# Altium footprint library Tri.PcbLib: 66 footprints (part 3 of 5)
Each footprint in its own frame and in the unit in brackets; x right, y up, seen from the top. Pads: shape width x height; smd on the part's side, far side on the other; paste and mask are expansions set on the pad; w line width, h text height; cw(c..) or ccw(c..) is an arc to the next point about the centre after c.
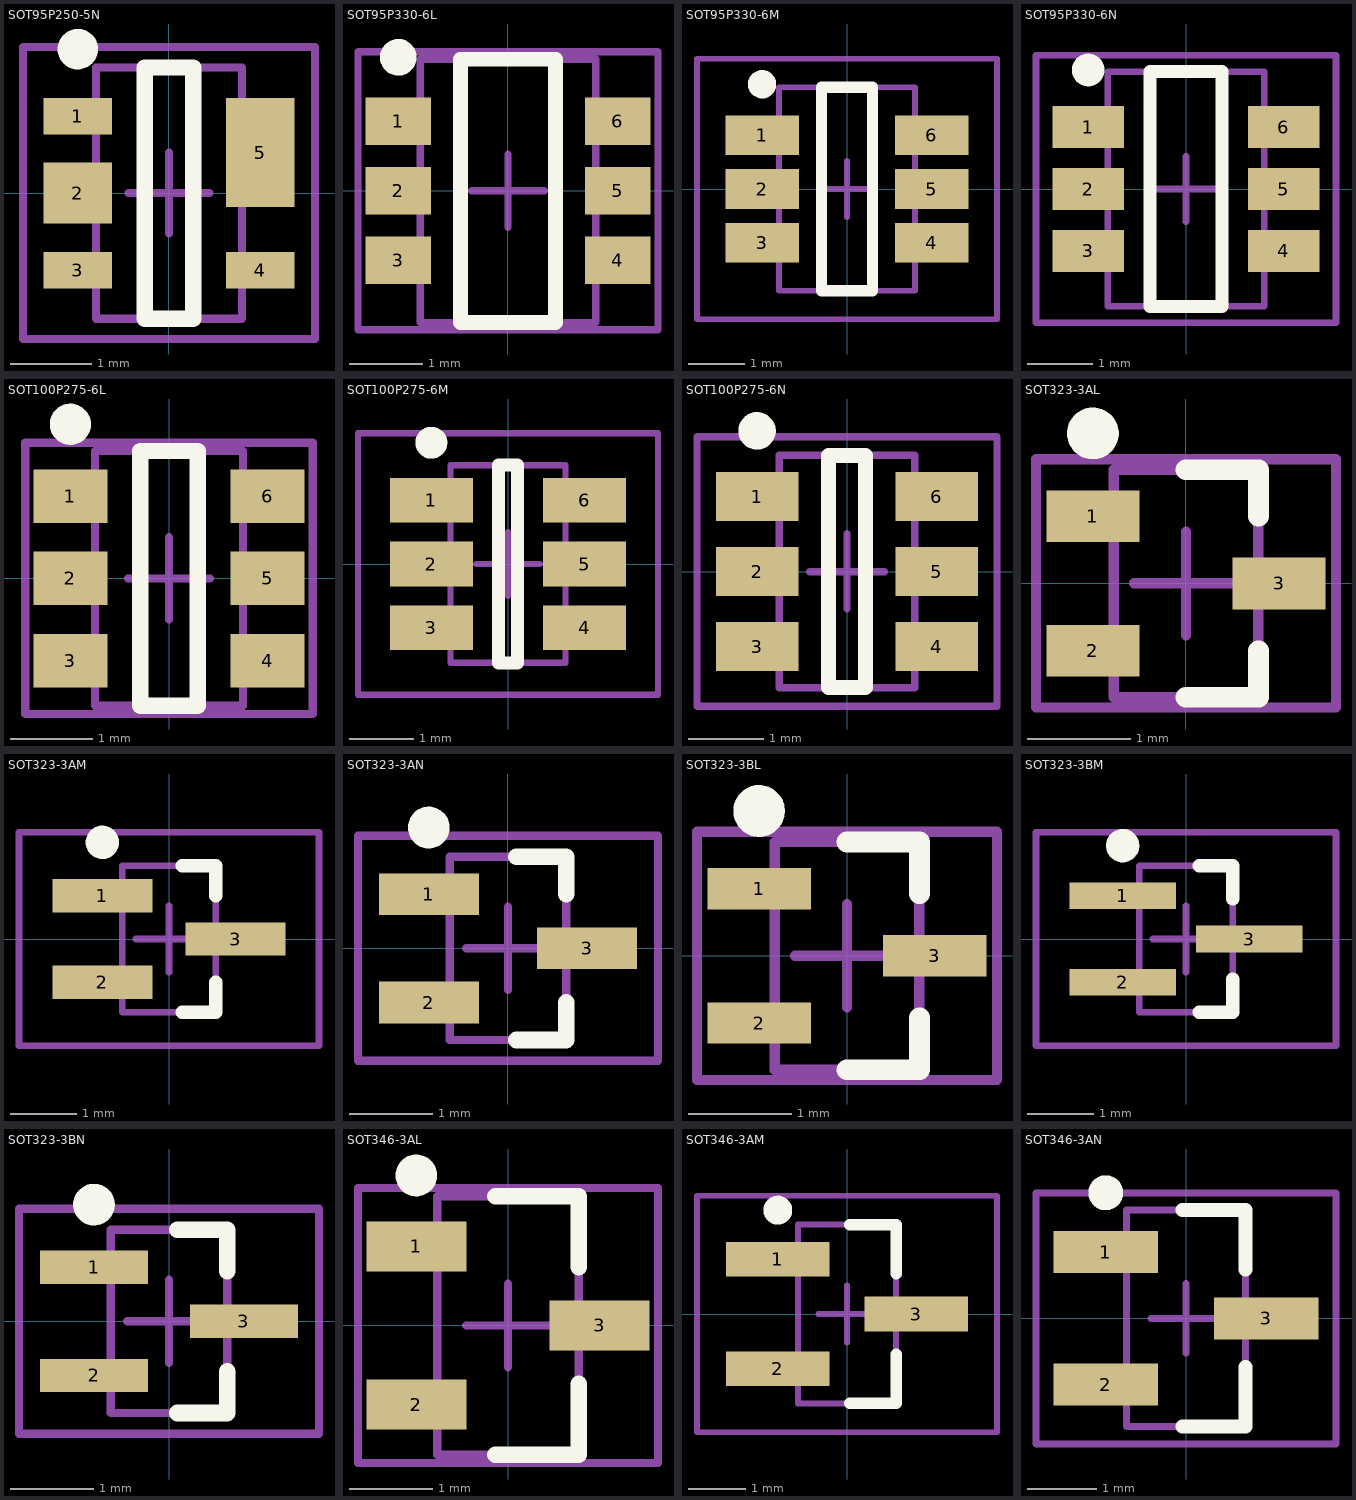
[diagram p2: the footprints below, top view; thin cyan lines are the x and y axes]

## SOT95P250-5N [mm] "Small Outline, 5-Leads, Body 2.9x1.6mm, Pitch 0.95mm, Lead Span 2.5mm - Modified Leads, IPC Medium Density"
height 1.1
pads (5):
  rect 0.85x0.45 smd: 1(-1.125,0.95) 3(-1.125,-0.95) 4(1.125,-0.95)
  rect 0.85x0.75 smd: 2(-1.125,0)
  rect 0.85x1.35 smd: 5(1.125,0.5)
Top Overlay:
  circle w0.25: c-1.125,1.775 r0.125
  lines w0.2: -0.3,-1.55 -0.3,1.55 0.3,1.55 0.3,-1.55 -0.3,-1.55
Mechanical 13:
  lines w0.1: -0.9,-1.55 0.9,-1.55 0.9,1.55 -0.9,1.55 -0.9,-1.55
Mechanical 15:
  lines w0.1: -0.5,0 0.5,0 ; 0,-0.5 0,0.5 ; -1.8,-1.8 1.8,-1.8 1.8,1.8 -1.8,1.8 -1.8,-1.8
3D body: height 1.1, standoff 0, extent -0.9,-1.55 0.9,1.55

## SOT95P330-6L [mm] "Small Outline, 6-Leads, Body 3.4x2.2mm, Pitch 0.95mm, Lead Span 3.3mm, IPC High Density"
height 1.4
pads (6):
  rect 0.9x0.65 smd: 1(-1.5,0.95) 2(-1.5,0) 3(-1.5,-0.95) 4(1.5,-0.95) 5(1.5,0) 6(1.5,0.95)
Top Overlay:
  circle w0.25: c-1.5,1.825 r0.125
  lines w0.2: -0.65,-1.8 -0.65,1.8 0.65,1.8 0.65,-1.8 -0.65,-1.8
Mechanical 13:
  lines w0.1: -1.2,-1.8 1.2,-1.8 1.2,1.8 -1.2,1.8 -1.2,-1.8
Mechanical 15:
  lines w0.1: -0.5,0 0.5,0 ; 0,-0.5 0,0.5 ; -2.05,-1.9 2.05,-1.9 2.05,1.9 -2.05,1.9 -2.05,-1.9
3D body: height 1.4, standoff 0, extent -1.2,-1.8 1.2,1.8

## SOT95P330-6M [mm]
pads (6):
  rect 1.3x0.7 smd: 1(-1.5,0.95) 2(-1.5,0) 3(-1.5,-0.95) 4(1.5,-0.95) 5(1.5,0) 6(1.5,0.95)
Top Overlay:
  circle w0.25: c-1.5,1.85 r0.125
  lines w0.2: -0.45,-1.8 0.45,-1.8 0.45,1.8 -0.45,1.8 -0.45,-1.8
Mechanical 13:
  lines w0.1: -1.2,-1.8 -1.2,1.8 1.2,1.8 1.2,-1.8 -1.2,-1.8
Mechanical 15:
  lines w0.1: -0.5,0 0.5,0 ; 0,-0.5 0,0.5 ; -2.65,-2.3 -2.65,2.3 2.65,2.3 2.65,-2.3 -2.65,-2.3
3D body: height 0, standoff 0, extent -1.2,-1.8 1.2,1.8

## SOT95P330-6N [mm] "Small Outline, 6-Leads, Body 3.4x2.2mm, Pitch 0.95mm, Lead Span 3.3mm, IPC Medium Density"
height 1.4
pads (6):
  rect 1.1x0.65 smd: 1(-1.5,0.95) 2(-1.5,0) 3(-1.5,-0.95) 4(1.5,-0.95) 5(1.5,0) 6(1.5,0.95)
Top Overlay:
  circle w0.25: c-1.5,1.825 r0.125
  lines w0.2: -0.55,-1.8 0.55,-1.8 0.55,1.8 -0.55,1.8 -0.55,-1.8
Mechanical 13:
  lines w0.1: -1.2,-1.8 -1.2,1.8 1.2,1.8 1.2,-1.8 -1.2,-1.8
Mechanical 15:
  lines w0.1: -0.5,0 0.5,0 ; 0,-0.5 0,0.5 ; -2.3,-2.05 -2.3,2.05 2.3,2.05 2.3,-2.05 -2.3,-2.05
3D body: height 1.4, standoff 0, extent -1.2,-1.8 1.2,1.8

## SOT100P275-6L [mm] "SOT23, 6-Leads, Body 3x1.5mm, Pitch 1mm, Lead Span 2.7mm, IPC High Density"
height 1.1
pads (6):
  rect 0.9x0.65 smd: 1(-1.2,1) 2(-1.2,0) 3(-1.2,-1) 4(1.2,-1) 5(1.2,0) 6(1.2,1)
Top Overlay:
  circle w0.25: c-1.2,1.875 r0.125
  lines w0.2: -0.35,-1.55 -0.35,1.55 0.35,1.55 0.35,-1.55 -0.35,-1.55
Mechanical 13:
  lines w0.1: -0.9,-1.55 0.9,-1.55 0.9,1.55 -0.9,1.55 -0.9,-1.55
Mechanical 15:
  lines w0.1: -0.5,0 0.5,0 ; 0,-0.5 0,0.5 ; -1.75,-1.65 1.75,-1.65 1.75,1.65 -1.75,1.65 -1.75,-1.65
3D body: height 1.1, standoff 0, extent -0.9,-1.55 0.9,1.55

## SOT100P275-6M [mm]
pads (6):
  rect 1.3x0.7 smd: 1(-1.2,1) 2(-1.2,0) 3(-1.2,-1) 4(1.2,-1) 5(1.2,0) 6(1.2,1)
Top Overlay:
  circle w0.25: c-1.2,1.9 r0.125
  lines w0.2: -0.15,-1.55 -0.15,1.55 0.15,1.55 0.15,-1.55 -0.15,-1.55
Mechanical 13:
  lines w0.1: -0.9,-1.55 0.9,-1.55 0.9,1.55 -0.9,1.55 -0.9,-1.55
Mechanical 15:
  lines w0.1: -0.5,0 0.5,0 ; 0,-0.5 0,0.5 ; -2.35,-2.05 2.35,-2.05 2.35,2.05 -2.35,2.05 -2.35,-2.05
3D body: height 0, standoff 0, extent -0.9,-1.55 0.9,1.55

## SOT100P275-6N [mm] "SOT23, 6-Leads, Body 3x1.5mm, Pitch 1mm, Lead Span 2.7mm, IPC Medium Density"
height 1.1
pads (6):
  rect 1.1x0.65 smd: 1(-1.2,1) 2(-1.2,0) 3(-1.2,-1) 4(1.2,-1) 5(1.2,0) 6(1.2,1)
Top Overlay:
  circle w0.25: c-1.2,1.875 r0.125
  lines w0.2: -0.25,-1.55 -0.25,1.55 0.25,1.55 0.25,-1.55 -0.25,-1.55
Mechanical 13:
  lines w0.1: -0.9,-1.55 0.9,-1.55 0.9,1.55 -0.9,1.55 -0.9,-1.55
Mechanical 15:
  lines w0.1: -0.5,0 0.5,0 ; 0,-0.5 0,0.5 ; -2,-1.8 2,-1.8 2,1.8 -2,1.8 -2,-1.8
3D body: height 1.1, standoff 0, extent -0.9,-1.55 0.9,1.55

## SOT323-3AL [mm] "SOT323, 3-Leads, Body 2.0x1.3mm, Pitch 0.65mm, Lead Span 2.1mm, IPC High Density"
height 1
pads (3):
  rect 0.9x0.5 smd: 1(-0.9,0.65) 2(-0.9,-0.65) 3(0.9,0)
Top Overlay:
  circle w0.25: c-0.9,1.45 r0.125
  lines w0.2: 0,-1.1 0.7,-1.1 0.7,-0.65 ; 0,1.1 0.7,1.1 0.7,0.65
Mechanical 13:
  lines w0.1: -0.7,-1.1 -0.7,1.1 0.7,1.1 0.7,-1.1 -0.7,-1.1
Mechanical 15:
  lines w0.1: -0.5,0 0.5,0 ; 0,-0.5 0,0.5 ; -1.45,-1.2 -1.45,1.2 1.45,1.2 1.45,-1.2 -1.45,-1.2
3D body: height 1, standoff 0, extent -0.7,-1.1 0.7,1.1

## SOT323-3AM [mm] "SOT323, 3-Leads, Body 2.0x1.3mm, Pitch 0.65mm, Lead Span 2.1mm, IPC Low Density"
height 1
pads (3):
  rect 1.5x0.5 smd: 1(-1,0.65) 2(-1,-0.65) 3(1,0)
Top Overlay:
  circle w0.25: c-1,1.45 r0.125
  lines w0.2: 0.2,-1.1 0.7,-1.1 0.7,-0.65 ; 0.2,1.1 0.7,1.1 0.7,0.65
Mechanical 13:
  lines w0.1: -0.7,-1.1 -0.7,1.1 0.7,1.1 0.7,-1.1 -0.7,-1.1
Mechanical 15:
  lines w0.1: -0.5,0 0.5,0 ; 0,-0.5 0,0.5 ; -2.25,-1.6 -2.25,1.6 2.25,1.6 2.25,-1.6 -2.25,-1.6
3D body: height 1, standoff 0, extent -0.7,-1.1 0.7,1.1

## SOT323-3AN [mm] "SOT323, 3-Leads, Body 2.0x1.3mm, Pitch 0.65mm, Lead Span 2.1mm, IPC Medium Density"
height 1
pads (3):
  rect 1.2x0.5 smd: 1(-0.95,0.65) 2(-0.95,-0.65) 3(0.95,0)
Top Overlay:
  circle w0.25: c-0.95,1.45 r0.125
  lines w0.2: 0.1,-1.1 0.7,-1.1 0.7,-0.65 ; 0.1,1.1 0.7,1.1 0.7,0.65
Mechanical 13:
  lines w0.1: -0.7,-1.1 -0.7,1.1 0.7,1.1 0.7,-1.1 -0.7,-1.1
Mechanical 15:
  lines w0.1: -0.5,0 0.5,0 ; 0,-0.5 0,0.5 ; -1.8,-1.35 -1.8,1.35 1.8,1.35 1.8,-1.35 -1.8,-1.35
3D body: height 1, standoff 0, extent -0.7,-1.1 0.7,1.1

## SOT323-3BL [mm] "SOT23, 3-Leads, Body 2x1.25mm, Pitch 0.65mm, Lead Span 2.1mm, IPC High Density"
height 1.1
pads (3):
  rect 1x0.4 smd: 1(-0.85,0.65) 2(-0.85,-0.65) 3(0.85,0)
Top Overlay:
  circle w0.25: c-0.85,1.4 r0.125
  lines w0.2: 0,-1.1 0.7,-1.1 0.7,-0.6 ; 0,1.1 0.7,1.1 0.7,0.6
Mechanical 13:
  lines w0.1: -0.7,-1.1 0.7,-1.1 0.7,1.1 -0.7,1.1 -0.7,-1.1
Mechanical 15:
  lines w0.1: -0.5,0 0.5,0 ; 0,-0.5 0,0.5 ; -1.45,-1.2 1.45,-1.2 1.45,1.2 -1.45,1.2 -1.45,-1.2
3D body: height 1.1, standoff 0, extent -0.7,-1.1 0.7,1.1

## SOT323-3BM [mm] "SOT23, 3-Leads, Body 2x1.25mm, Pitch 0.65mm, Lead Span 2.1mm, IPC Low Density"
height 1.1
pads (3):
  rect 1.6x0.4 smd: 1(-0.95,0.65) 2(-0.95,-0.65) 3(0.95,0)
Top Overlay:
  circle w0.25: c-0.95,1.4 r0.125
  lines w0.2: 0.2,-1.1 0.7,-1.1 0.7,-0.6 ; 0.2,1.1 0.7,1.1 0.7,0.6
Mechanical 13:
  lines w0.1: -0.7,-1.1 0.7,-1.1 0.7,1.1 -0.7,1.1 -0.7,-1.1
Mechanical 15:
  lines w0.1: -0.5,0 0.5,0 ; 0,-0.5 0,0.5 ; -2.25,-1.6 2.25,-1.6 2.25,1.6 -2.25,1.6 -2.25,-1.6
3D body: height 1.1, standoff 0, extent -0.7,-1.1 0.7,1.1

## SOT323-3BN [mm] "SOT23, 3-Leads, Body 2x1.25mm, Pitch 0.65mm, Lead Span 2.1mm, IPC Medium Density"
height 1.1
pads (3):
  rect 1.3x0.4 smd: 1(-0.9,0.65) 2(-0.9,-0.65) 3(0.9,0)
Top Overlay:
  circle w0.25: c-0.9,1.4 r0.125
  lines w0.2: 0.1,-1.1 0.7,-1.1 0.7,-0.6 ; 0.1,1.1 0.7,1.1 0.7,0.6
Mechanical 13:
  lines w0.1: -0.7,-1.1 0.7,-1.1 0.7,1.1 -0.7,1.1 -0.7,-1.1
Mechanical 15:
  lines w0.1: -0.5,0 0.5,0 ; 0,-0.5 0,0.5 ; -1.8,-1.35 1.8,-1.35 1.8,1.35 -1.8,1.35 -1.8,-1.35
3D body: height 1.1, standoff 0, extent -0.7,-1.1 0.7,1.1

## SOT346-3AL [mm] "SOT346, 3-Leads, Body 2.9x1.5mm, Pitch 0.95mm, Lead Span 2.6mm, IPC High Density"
height 1.45
pads (3):
  rect 1.2x0.6 smd: 1(-1.1,0.95) 2(-1.1,-0.95) 3(1.1,0)
Top Overlay:
  circle w0.25: c-1.1,1.8 r0.125
  lines w0.2: -0.15,-1.55 0.85,-1.55 0.85,-0.7 ; -0.15,1.55 0.85,1.55 0.85,0.7
Mechanical 13:
  lines w0.1: -0.85,-1.55 -0.85,1.55 0.85,1.55 0.85,-1.55 -0.85,-1.55
Mechanical 15:
  lines w0.1: -0.5,0 0.5,0 ; 0,-0.5 0,0.5 ; -1.8,-1.65 -1.8,1.65 1.8,1.65 1.8,-1.65 -1.8,-1.65
3D body: height 1.45, standoff 0, extent -0.85,-1.55 0.85,1.55

## SOT346-3AM [mm] "SOT346, 3-Leads, Body 2.9x1.5mm, Pitch 0.95mm, Lead Span 2.6mm, IPC Low Density"
height 1.45
pads (3):
  rect 1.8x0.6 smd: 1(-1.2,0.95) 2(-1.2,-0.95) 3(1.2,0)
Top Overlay:
  circle w0.25: c-1.2,1.8 r0.125
  lines w0.2: 0.05,-1.55 0.85,-1.55 0.85,-0.7 ; 0.05,1.55 0.85,1.55 0.85,0.7
Mechanical 13:
  lines w0.1: -0.85,-1.55 0.85,-1.55 0.85,1.55 -0.85,1.55 -0.85,-1.55
Mechanical 15:
  lines w0.1: -0.5,0 0.5,0 ; 0,-0.5 0,0.5 ; -2.6,-2.05 2.6,-2.05 2.6,2.05 -2.6,2.05 -2.6,-2.05
3D body: height 1.45, standoff 0, extent -0.85,-1.55 0.85,1.55

## SOT346-3AN [mm] "SOT346, 3-Leads, Body 2.9x1.5mm, Pitch 0.95mm, Lead Span 2.6mm, IPC Medium Density"
height 1.45
pads (3):
  rect 1.5x0.6 smd: 1(-1.15,0.95) 2(-1.15,-0.95) 3(1.15,0)
Top Overlay:
  circle w0.25: c-1.15,1.8 r0.125
  lines w0.2: -0.05,-1.55 0.85,-1.55 0.85,-0.7 ; -0.05,1.55 0.85,1.55 0.85,0.7
Mechanical 13:
  lines w0.1: -0.85,-1.55 -0.85,1.55 0.85,1.55 0.85,-1.55 -0.85,-1.55
Mechanical 15:
  lines w0.1: -0.5,0 0.5,0 ; 0,-0.5 0,0.5 ; -2.15,-1.8 -2.15,1.8 2.15,1.8 2.15,-1.8 -2.15,-1.8
3D body: height 1.45, standoff 0, extent -0.85,-1.55 0.85,1.55